# EAGLE library part LM4875 (library TuansLib)
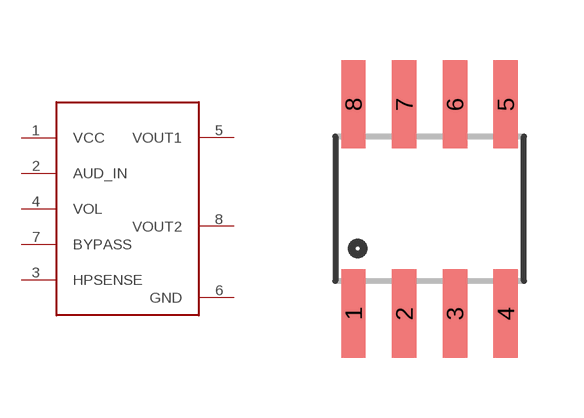
[diagram p4: symbol with the pads of SOIC8; footprint SOIC8]

Designator prefix -

## LM4875  [SOIC8]
1  VCC
2  AUD_IN
3  HPSENSE
4  VOL
5  VOUT1
6  GND
7  BYPASS
8  VOUT2

## Footprint SOIC8 (pad centres in mm)
smd 0.61 x 2.21: 1 -1.905,-2.616; 2 -0.635,-2.616; 3 0.635,-2.616; 4 1.905,-2.616; 5 1.905,2.616; 6 0.635,2.616; 7 -0.635,2.616; 8 -1.905,2.616